# Altium integrated library Sensirion.IntLib: 1 symbol
Pins are listed as number, name and electrical type; pins without a type are passive.

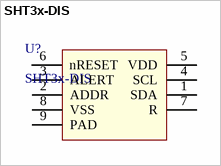
[diagram p0: symbol SHT3x-DIS]

## SHT3x-DIS
designator U?
Humidity and Temperature Sensor
footprint DFN - 8
footprint SHT3x-DIS_SEN
footprint SHT3x-DIS_SEN-L
footprint SHT3x-DIS_SEN-M
pins: 1 SDA, 2 ADDR, 3 ALERT, 4 SCL, 5 VDD, 6 nRESET, 7 R, 8 VSS, 9 PAD